# EAGLE library part OPA551 (library opamps)
OPA551: High voltage, high current opamp (Burr-Brown) ±30V, ±200mA, 100pA bias 3mV offset, 3MHz UGF, 14nV/rt(Hz) noise
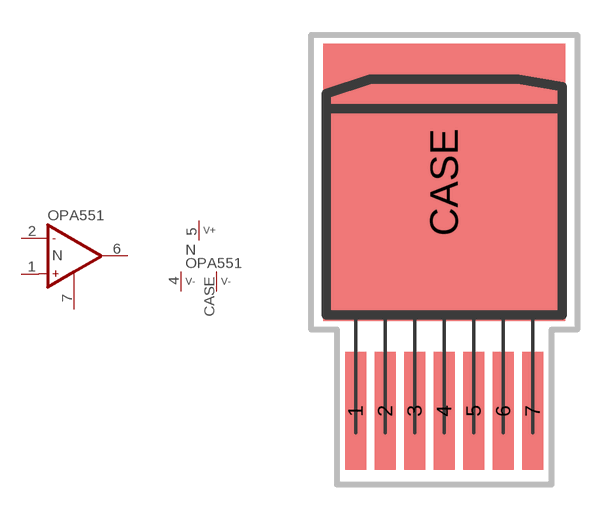
[diagram p274: symbol with the pads of TO263-7; footprint TO263-7]

Designator prefix N; gates A=OP_R P=V+2-

## OPA551  [TO263-7]
1  A:IN+  in
2  A:IN-  in
4  P:V-1  pwr
5  P:V+  pwr
6  A:OUT  out
7  A:OPF
CASE  P:V-2  pwr

## OPA551S  [TO263-7]
Pads as for TO263-7

## Footprint TO263-7 (pad centres in mm)
TO-263 SMD power pac, 7 pins
smd 0.914 x 5.08: 1 -3.81,-0.318; 2 -2.54,-0.318; 3 -1.27,-0.318; 4 0,-0.318; 5 1.27,-0.318; 6 2.54,-0.318; 7 3.81,-0.318
smd 10.414 x 11.938: CASE 0,9.525